# Altium schematic symbol library BBCMP-P20.Schlib: 1 symbol
Pins are listed as number, name and electrical type; pins without a type are passive.

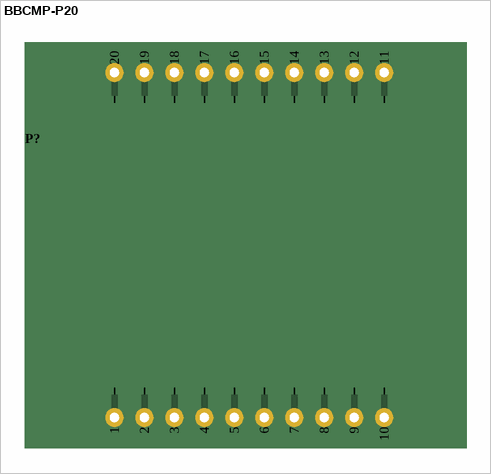
[diagram p0: symbol BBCMP-P20]

## BBCMP-P20
designator P?  (no BOM)
BreadBoard component, 2x10, 1000x800 mil
pins: 1, 2, 3, 4, 5, 6, 7, 8, 9, 10, 11, 12, 13, 14, 15, 16, 17, 18, 19, 20